# Altium schematic symbol library Schlib1.SchLib: 1 symbol
Pins are listed as number, name and electrical type; pins without a type are passive.

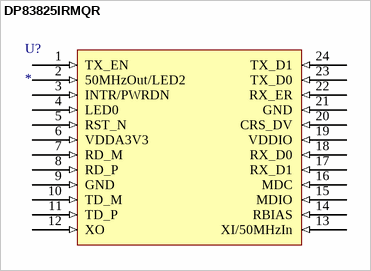
[diagram p0: symbol DP83825IRMQR]

## DP83825IRMQR
designator U?
Manufacturer: Texas Instruments; Manufacturer Part Number: DP83825IRMQR; Supplier 1: Digi-Key; RoHS: Yes; Category: Interface ICs; Stock 1: 2260; Pricing 1: 1=1.40000, 10=1.25100, 25=1.18720, 100=0.91160, 250=0.80560, 500=0.76320, 1000=0.59360 (USD); Supplier Part Number 1: 296-DP83825IRMQRCT-ND
pins: 1 TX_EN (in), 2 50MHzOut/LED2 (in), 3 INTR/PWRDN (in), 4 LED0 (in), 5 RST_N (in), 6 VDDA3V3 (in), 7 RD_M (in), 8 RD_P (in), 9 GND (in), 10 TD_M (in), 11 TD_P (in), 12 XO (in), 13 XI/50MHzIn (in), 14 RBIAS (in), 15 MDIO (in), 16 MDC (in), 17 RX_D1 (in), 18 RX_D0 (in), 19 VDDIO (in), 20 CRS_DV (in), 21 GND (in), 22 RX_ER (in), 23 TX_D0 (in), 24 TX_D1 (in)